# EAGLE library part IC_UC_PIC18F44J50 (library dp_devices)
44-Pin Low Power USB Microcontrollers
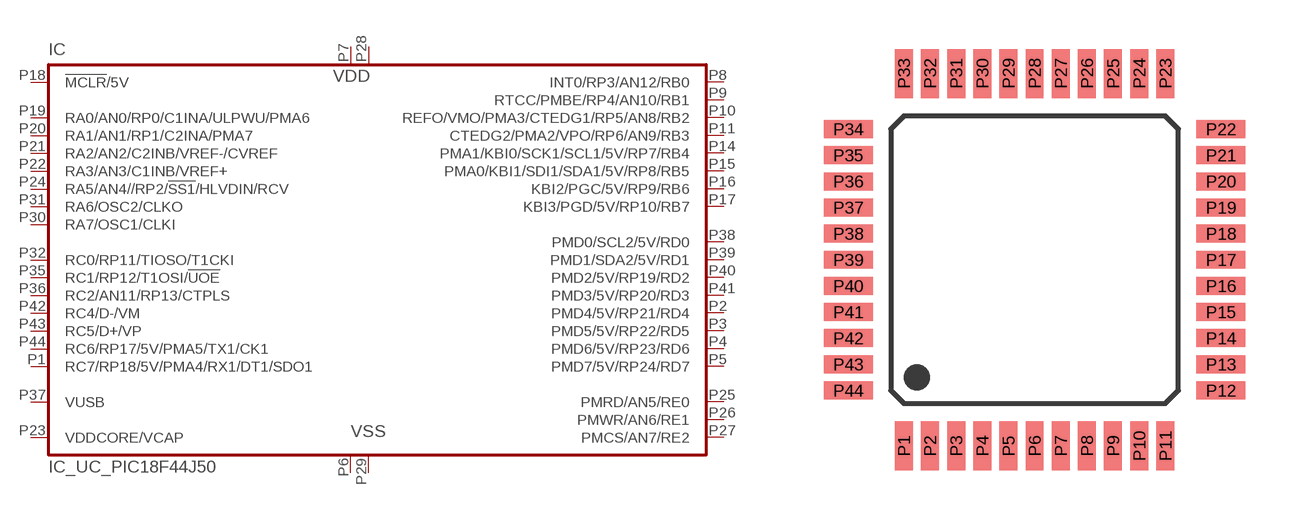
[diagram p73: symbol with the pads of TQFP-44; footprint TQFP-44]

Designator prefix IC

## IC_UC_PIC18F44J50  [TQFP-44]
P1  RC7/RP18/5V/PMA4/RX1/DT1/SDO1
P2  PMD4/5V/RP21/RD4
P3  PMD5/5V/RP22/RD5
P4  PMD6/5V/RP23/RD6
P5  PMD7/5V/RP24/RD7
P6  VSS  pwr
P7  VDD  pwr
P8  INT0/RP3/AN12/RB0
P9  RTCC/PMBE/RP4/AN10/RB1
P10  REFO/VMO/PMA3/CTEDG1/RP5/AN8/RB2
P11  CTEDG2/PMA2/VPO/RP6/AN9/RB3
P14  PMA1/KBI0/SCK1/SCL1/5V/RP7/RB4
P15  PMA0/KBI1/SDI1/SDA1/5V/RP8/RB5
P16  KBI2/PGC/5V/RP9/RB6
P17  KBI3/PGD/5V/RP10/RB7
P18  !MCLR!/5V  in
P19  RA0/AN0/RP0/C1INA/ULPWU/PMA6
P20  RA1/AN1/RP1/C2INA/PMA7
P21  RA2/AN2/C2INB/VREF-/CVREF
P22  RA3/AN3/C1INB/VREF+
P23  VDDCORE/VCAP  in
P24  RA5/AN4//RP2/!SS1!/HLVDIN/RCV
P25  PMRD/AN5/RE0
P26  PMWR/AN6/RE1
P27  PMCS/AN7/RE2
P28  VDD  pwr
P29  VSS  pwr
P30  RA7/OSC1/CLKI
P31  RA6/OSC2/CLKO
P32  RC0/RP11/TIOSO/T1CKI
P35  RC1/RP12/T1OSI/!UOE!
P36  RC2/AN11/RP13/CTPLS
P37  VUSB
P38  PMD0/SCL2/5V/RD0
P39  PMD1/SDA2/5V/RD1
P40  PMD2/5V/RP19/RD2
P41  PMD3/5V/RP20/RD3
P42  RC4/D-/VM
P43  RC5/D+/VP
P44  RC6/RP17/5V/PMA5/TX1/CK1

## Footprint TQFP-44 (pad centres in mm)
smd 0.55 x 1.5: P1 -4,-5.7; P2 -3.2,-5.7; P3 -2.4,-5.7; P4 -1.6,-5.7; P5 -0.8,-5.7; P6 0,-5.7; P7 0.8,-5.7; P8 1.6,-5.7; P9 2.4,-5.7; P10 3.2,-5.7; P11 4,-5.7; P23 4,5.7; P24 3.2,5.7; P25 2.4,5.7; P26 1.6,5.7; P27 0.8,5.7; P28 0,5.7; P29 -0.8,5.7; P30 -1.6,5.7; P31 -2.4,5.7; P32 -3.2,5.7; P33 -4,5.7
smd 1.5 x 0.55: P12 5.7,-4; P13 5.7,-3.2; P14 5.7,-2.4; P15 5.7,-1.6; P16 5.7,-0.8; P17 5.7,0; P18 5.7,0.8; P19 5.7,1.6; P20 5.7,2.4; P21 5.7,3.2; P22 5.7,4; P34 -5.7,4; P35 -5.7,3.2; P36 -5.7,2.4; P37 -5.7,1.6; P38 -5.7,0.8; P39 -5.7,0; P40 -5.7,-0.8; P41 -5.7,-1.6; P42 -5.7,-2.4; P43 -5.7,-3.2; P44 -5.7,-4